# EAGLE library part 691701550007B (library Wuerth_Elektronik_eiCan_Terminal_Blocks_v2.0)
WR-TBL SERIE 7015B 5.08MM CLOSED HORIZONTAL PCB HEADER THR TYPE WITH FLANGES
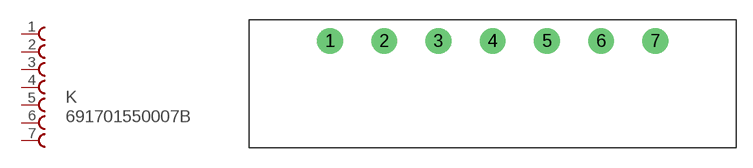
[diagram p389: symbol with the pads of 691701550007B; footprint 691701550007B]

Designator prefix K

## 691701550007B  [691701550007B]
1  1  pas
2  2  pas
3  3  pas
4  4  pas
5  5  pas
6  6  pas
7  7  pas

## Footprint 691701550007B (pad centres in mm)
WR-TBL SERIE 7015B 5.08MM CLOSED HORIZONTAL PCB HEADER THR TYPE WITH FLANGES
drill 1.6 round: 1 0,0; 2 5.08,0; 3 10.16,0; 4 15.24,0; 5 20.32,0; 6 25.4,0; 7 30.48,0